# Altium schematic symbol library NUF2221W1.Schlib: 1 symbol
Pins are listed as number, name and electrical type; pins without a type are passive.

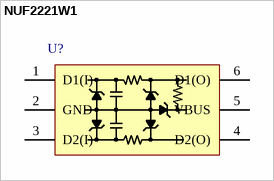
[diagram p0: symbol NUF2221W1]

## NUF2221W1
designator U?  (value not drawn)
RC ESD Filter
pins: 1 D1(I), 2 GND, 3 D2(I), 4 D2(O), 5 VBUS, 6 D1(O)